# EAGLE library part 74AC00PC (library Fairchild_By_element14_Batch_1)
Quad 2-Input NAND Gate
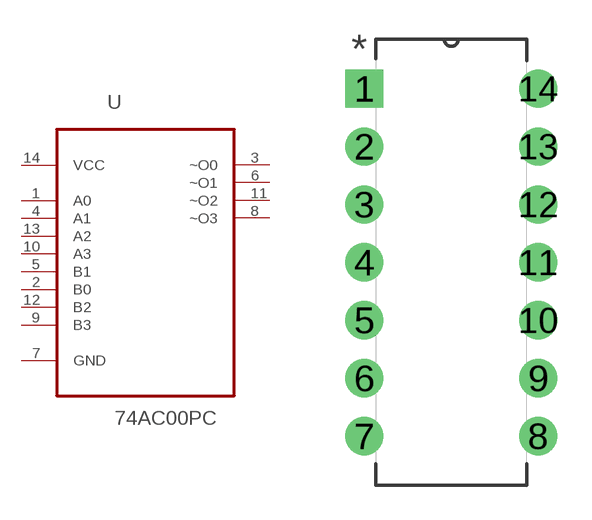
[diagram p2: symbol with the pads of DIP254P762X533-14; footprint DIP254P762X533-14]

Designator prefix U

## 74AC00PC (MPN: 74AC00PC; OC_FARNELL: -; OC_NEWARK: 58K9671; PACKAGE: PDIP-14; SUPPLIER: FAIRCHILD SEMICONDUCTOR)  [DIP254P762X533-14]
1  A0  in
2  B0  in
3  ~O0  pas
4  A1  pas
5  B1  in
6  ~O1  pas
7  GND  pas
8  ~O3  pas
9  B3  in
10  A3  in
11  ~O2  pas
12  B2  in
13  A2  in
14  VCC  pwr

## Footprint DIP254P762X533-14 (pad centres in mm)
drill 1.118 square: 1 -7.62,15.24
drill 1.118: 2 -7.62,12.7; 3 -7.62,10.16; 4 -7.62,7.62; 5 -7.62,5.08; 6 -7.62,2.54; 7 -7.62,0; 8 0,0; 9 0,2.54; 10 0,5.08; 11 0,7.62; 12 0,10.16; 13 0,12.7; 14 0,15.24